# EAGLE library part AD8220-S (library Orlando)
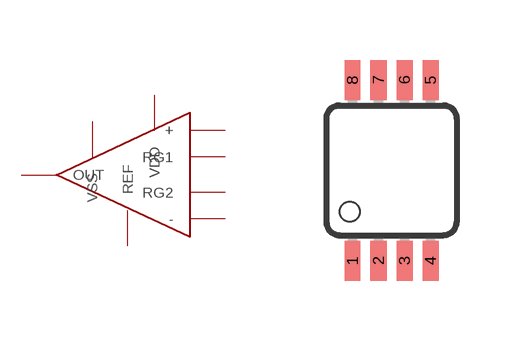
[diagram p5: symbol with the pads of MSOP08; footprint MSOP08]

Designator prefix -

## AD8220-S  [MSOP08]
1  -  nc
2  RG1  nc
3  RG2  nc
4  +  nc
5  VSS  nc
6  REF  nc
7  OUT  nc
8  VDD  nc

## Footprint MSOP08 (pad centres in mm)
8-Lead micro SO (RM-8) Source: http://www.analog.com/UploadedFiles/Data_Sheets/703465986AD8611_2_0.pdf
smd 0.4 x 1: 1 -0.976,-2.263; 2 -0.326,-2.263; 3 0.324,-2.263; 4 0.974,-2.263; 5 0.974,2.262; 6 0.324,2.262; 7 -0.326,2.262; 8 -0.976,2.262